# Altium footprint library BC547A.PcbLib: 1 footprints
Each footprint in its own frame and in the unit in brackets; x right, y up, seen from the top. Pads: shape width x height; smd on the part's side, far side on the other; paste and mask are expansions set on the pad; w line width, h text height; cw(c..) or ccw(c..) is an arc to the next point about the centre after c.
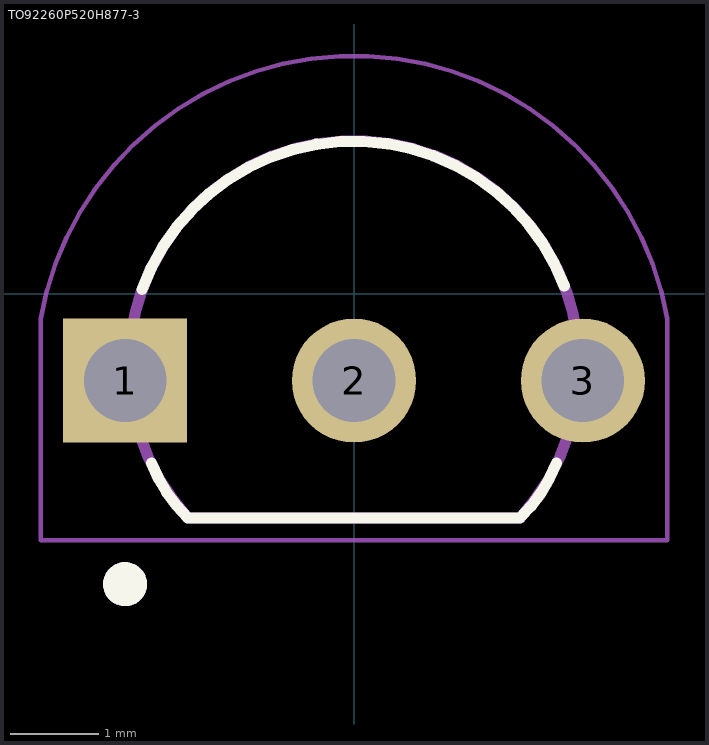
[diagram p0: the footprint, top view; thin cyan lines are the x and y axes]

## TO92260P520H877-3 [mm]
pads (3):
  rect 1.41x1.41 hole 0.94: 1(-2.6,-0.988)
  round 1.41 hole 0.94: 2(0,-0.988) 3(2.6,-0.988)
Top Overlay:
  circle w0.3: c-2.6,-3.3 r0.1
  lines w0.127: -2.41,0.047 cw(c-0.002,-0.83) 2.389,0.088 ; -2.301,-1.922 ccw(c-0.688,-1.303) -1.888,-2.546 ; -1.886,-2.548 1.886,-2.548 ; 1.887,-2.547 ccw(c0.687,-1.305) 2.299,-1.924
Mechanical 13:
  circle w0.3: c-2.6,-3.3 r0.1
  lines w0.127: -1.901,-2.531 cw(c0,-0.82) 1.901,-2.531 ; -1.886,-2.548 1.886,-2.548
Mechanical 15:
  lines w0.05: -3.56,-2.8 -3.56,-0.285 cw(c0,-0.913) 3.56,-0.285 3.56,-2.8 -3.56,-2.8
3D body "step_temp.STEP": height 20.44, standoff 0, extent -2.276,-1.548 2.283,2.285